# EAGLE library part ATSAMD51J20A-AFT (library ATSAMD51j20AAFT)
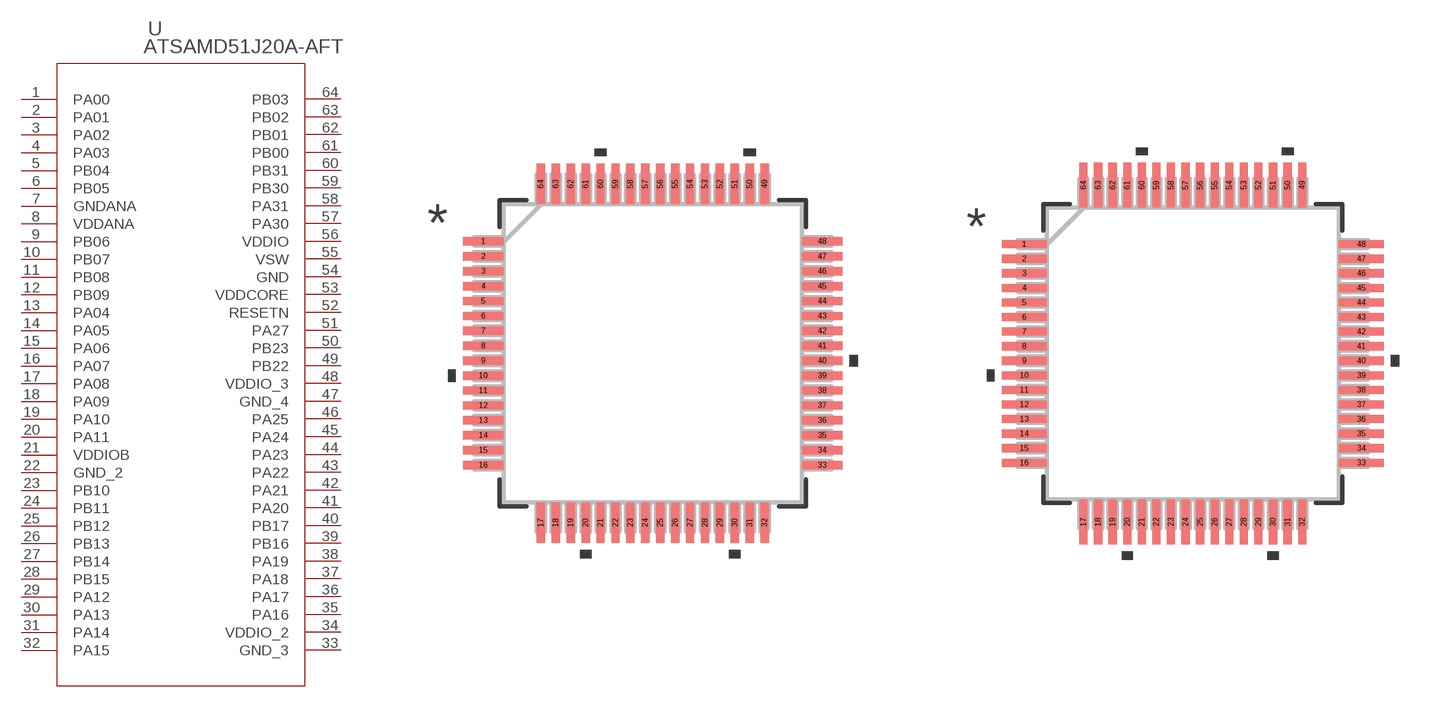
[diagram p0: symbol with the pads of TQFP64_PT_MCH; footprints TQFP64_PT_MCH, TQFP64_PT_MCH-M]

Designator prefix U

## ATSAMD51J20A-AFTTQFP64_PT_MCH (Copyright: Copyright (C) 2023 Ultra Librarian. All rights reserved.; Manufacturer_Part_Number: ATSAMD51J20A-AFT; Mfr_Name: Microchip)  [TQFP64_PT_MCH]
1  PA00
2  PA01
3  PA02
4  PA03
5  PB04
6  PB05
7  GNDANA  pas
8  VDDANA  pwr
9  PB06
10  PB07
11  PB08
12  PB09
13  PA04
14  PA05
15  PA06
16  PA07
17  PA08
18  PA09
19  PA10
20  PA11
21  VDDIOB  pwr
22  GND_2  pas
23  PB10
24  PB11
25  PB12
26  PB13
27  PB14
28  PB15
29  PA12
30  PA13
31  PA14
32  PA15
33  GND_3  pas
34  VDDIO_2  pwr
35  PA16
36  PA17
37  PA18
38  PA19
39  PB16
40  PB17
41  PA20
42  PA21
43  PA22
44  PA23
45  PA24
46  PA25
47  GND_4  pas
48  VDDIO_3  pwr
49  PB22
50  PB23
51  PA27
52  RESETN  in
53  VDDCORE  pwr
54  GND  pas
55  VSW  pwr
56  VDDIO  pwr
57  PA30
58  PA31
59  PB30
60  PB31
61  PB00
62  PB01
63  PB02
64  PB03

## ATSAMD51J20A-AFTTQFP64_PT_MCH-M (Copyright: Copyright (C) 2023 Ultra Librarian. All rights reserved.; Manufacturer_Part_Number: ATSAMD51J20A-AFT; Mfr_Name: Microchip)  [TQFP64_PT_MCH-M]
Pads as for TQFP64_PT_MCH

## ATSAMD51J20A-AFTTQFP64_PT_MCH-L (Copyright: Copyright (C) 2023 Ultra Librarian. All rights reserved.; Manufacturer_Part_Number: ATSAMD51J20A-AFT; Mfr_Name: Microchip)  [TQFP64_PT_MCH-L]
Pads as for TQFP64_PT_MCH

## Footprint TQFP64_PT_MCH (pad centres in mm)
smd 1.346 x 0.279: 1 -5.677,3.75; 2 -5.677,3.25; 3 -5.677,2.75; 4 -5.677,2.25; 5 -5.677,1.75; 6 -5.677,1.25; 7 -5.677,0.75; 8 -5.677,0.25; 9 -5.677,-0.25; 10 -5.677,-0.75; 11 -5.677,-1.25; 12 -5.677,-1.75; 13 -5.677,-2.25; 14 -5.677,-2.75; 15 -5.677,-3.25; 16 -5.677,-3.75; 33 5.677,-3.75; 34 5.677,-3.25; 35 5.677,-2.75; 36 5.677,-2.25; 37 5.677,-1.75; 38 5.677,-1.25; 39 5.677,-0.75; 40 5.677,-0.25; 41 5.677,0.25; 42 5.677,0.75; 43 5.677,1.25; 44 5.677,1.75; 45 5.677,2.25; 46 5.677,2.75; 47 5.677,3.25; 48 5.677,3.75
smd 0.279 x 1.346: 17 -3.75,-5.677; 18 -3.25,-5.677; 19 -2.75,-5.677; 20 -2.25,-5.677; 21 -1.75,-5.677; 22 -1.25,-5.677; 23 -0.75,-5.677; 24 -0.25,-5.677; 25 0.25,-5.677; 26 0.75,-5.677; 27 1.25,-5.677; 28 1.75,-5.677; 29 2.25,-5.677; 30 2.75,-5.677; 31 3.25,-5.677; 32 3.75,-5.677; 49 3.75,5.677; 50 3.25,5.677; 51 2.75,5.677; 52 2.25,5.677; 53 1.75,5.677; 54 1.25,5.677; 55 0.75,5.677; 56 0.25,5.677; 57 -0.25,5.677; 58 -0.75,5.677; 59 -1.25,5.677; 60 -1.75,5.677; 61 -2.25,5.677; 62 -2.75,5.677; 63 -3.25,5.677; 64 -3.75,5.677

## Footprint TQFP64_PT_MCH-M (pad centres in mm)
smd 1.549 x 0.279: 1 -5.779,3.75; 2 -5.779,3.25; 3 -5.779,2.75; 4 -5.779,2.25; 5 -5.779,1.75; 6 -5.779,1.25; 7 -5.779,0.75; 8 -5.779,0.25; 9 -5.779,-0.25; 10 -5.779,-0.75; 11 -5.779,-1.25; 12 -5.779,-1.75; 13 -5.779,-2.25; 14 -5.779,-2.75; 15 -5.779,-3.25; 16 -5.779,-3.75; 33 5.779,-3.75; 34 5.779,-3.25; 35 5.779,-2.75; 36 5.779,-2.25; 37 5.779,-1.75; 38 5.779,-1.25; 39 5.779,-0.75; 40 5.779,-0.25; 41 5.779,0.25; 42 5.779,0.75; 43 5.779,1.25; 44 5.779,1.75; 45 5.779,2.25; 46 5.779,2.75; 47 5.779,3.25; 48 5.779,3.75
smd 0.279 x 1.549: 17 -3.75,-5.779; 18 -3.25,-5.779; 19 -2.75,-5.779; 20 -2.25,-5.779; 21 -1.75,-5.779; 22 -1.25,-5.779; 23 -0.75,-5.779; 24 -0.25,-5.779; 25 0.25,-5.779; 26 0.75,-5.779; 27 1.25,-5.779; 28 1.75,-5.779; 29 2.25,-5.779; 30 2.75,-5.779; 31 3.25,-5.779; 32 3.75,-5.779; 49 3.75,5.779; 50 3.25,5.779; 51 2.75,5.779; 52 2.25,5.779; 53 1.75,5.779; 54 1.25,5.779; 55 0.75,5.779; 56 0.25,5.779; 57 -0.25,5.779; 58 -0.75,5.779; 59 -1.25,5.779; 60 -1.75,5.779; 61 -2.25,5.779; 62 -2.75,5.779; 63 -3.25,5.779; 64 -3.75,5.779

## Footprint TQFP64_PT_MCH-L (pad centres in mm)
smd 1.143 x 0.229: 1 -5.575,3.75; 2 -5.575,3.25; 3 -5.575,2.75; 4 -5.575,2.25; 5 -5.575,1.75; 6 -5.575,1.25; 7 -5.575,0.75; 8 -5.575,0.25; 9 -5.575,-0.25; 10 -5.575,-0.75; 11 -5.575,-1.25; 12 -5.575,-1.75; 13 -5.575,-2.25; 14 -5.575,-2.75; 15 -5.575,-3.25; 16 -5.575,-3.75; 33 5.575,-3.75; 34 5.575,-3.25; 35 5.575,-2.75; 36 5.575,-2.25; 37 5.575,-1.75; 38 5.575,-1.25; 39 5.575,-0.75; 40 5.575,-0.25; 41 5.575,0.25; 42 5.575,0.75; 43 5.575,1.25; 44 5.575,1.75; 45 5.575,2.25; 46 5.575,2.75; 47 5.575,3.25; 48 5.575,3.75
smd 0.229 x 1.143: 17 -3.75,-5.575; 18 -3.25,-5.575; 19 -2.75,-5.575; 20 -2.25,-5.575; 21 -1.75,-5.575; 22 -1.25,-5.575; 23 -0.75,-5.575; 24 -0.25,-5.575; 25 0.25,-5.575; 26 0.75,-5.575; 27 1.25,-5.575; 28 1.75,-5.575; 29 2.25,-5.575; 30 2.75,-5.575; 31 3.25,-5.575; 32 3.75,-5.575; 49 3.75,5.575; 50 3.25,5.575; 51 2.75,5.575; 52 2.25,5.575; 53 1.75,5.575; 54 1.25,5.575; 55 0.75,5.575; 56 0.25,5.575; 57 -0.25,5.575; 58 -0.75,5.575; 59 -1.25,5.575; 60 -1.75,5.575; 61 -2.25,5.575; 62 -2.75,5.575; 63 -3.25,5.575; 64 -3.75,5.575